# Altium schematic symbol library TLC542CDWR.SchLib: 2 symbols
Pins are listed as number, name and electrical type; pins without a type are passive.

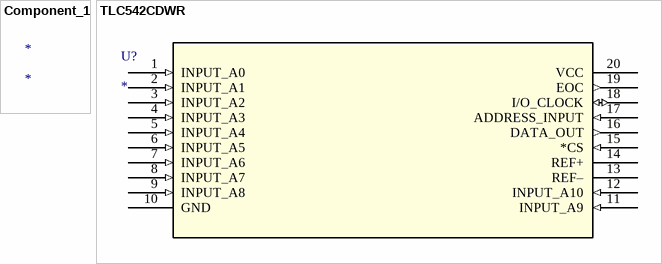
[diagram p0: symbols Component_1 to TLC542CDWR]

## Component_1
designator *

## TLC542CDWR
designator U?
Imported; Manufacturer_Part_Number: TLC542CDWR; Vendor: Texas Instruments; Built_By: EMA_UL_Team; C: Copyright (C) 2015 Accelerated Designs. All rights reserved; RefDes: RefDes; Type: DEV; Value: Value
footprint DW20
pins: 1 INPUT_A0 (in), 2 INPUT_A1 (in), 3 INPUT_A2 (in), 4 INPUT_A3 (in), 5 INPUT_A4 (in), 6 INPUT_A5 (in), 7 INPUT_A6 (in), 8 INPUT_A7 (in), 9 INPUT_A8 (in), 10 GND, 11 INPUT_A9 (in), 12 INPUT_A10 (in), 13 REF–, 14 REF+, 15 *CS (in), 16 DATA_OUT (out), 17 ADDRESS_INPUT (in), 18 I/O_CLOCK (io), 19 EOC (out), 20 VCC